# Altium footprint library PCB - CAPACITOR - ALUMINIUM - CAP TH ALUM ELEC D13.00mm S5.00mm H21.50mm.PCBLIB: 1 footprints
Each footprint in its own frame and in the unit in brackets; x right, y up, seen from the top. Pads: shape width x height; smd on the part's side, far side on the other; paste and mask are expansions set on the pad; w line width, h text height; cw(c..) or ccw(c..) is an arc to the next point about the centre after c.
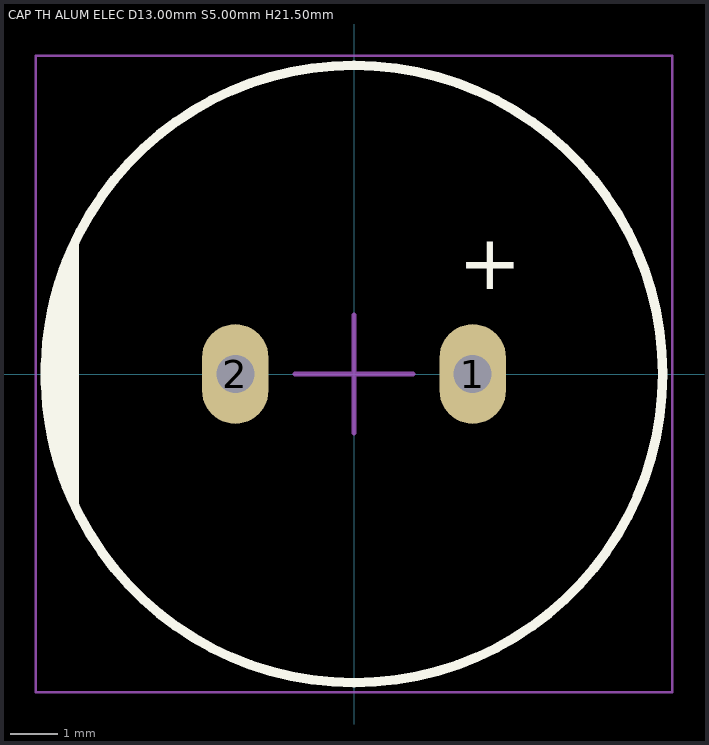
[diagram p0: the footprint, top view; thin cyan lines are the x and y axes]

## CAP TH ALUM ELEC D13.00mm S5.00mm H21.50mm [mm] "13mm Diameter 5mm Lead Spacing Aluminum Electrolytic Capacitors Radial, Can"
height 21.5
pads (2):
  oval 1.4x2.1 hole 0.8: 1(2.5,0) 2(-2.5,0)
Top Overlay:
  circle w0.2: c0,0 r6.5
  region: -5.891,-2.747 -6.041,-2.425 -6.269,-1.753 -6.423,-1.06 -6.5,-0.355 -6.5,0.355 -6.423,1.06 -6.269,1.753 -6.041,2.425 -5.891,2.747
  lines w0.2: -5.891,-2.747 cw(c0,0) -5.891,2.747 -5.891,-2.747
  text "+" at 2.2,1.4 h2
Mechanical 13:
  circle w0.1: c0,0 r6.5
  lines w0.1: -5.891,-2.747 -5.891,2.747
Mechanical 15:
  lines w0.05: -6.7,-6.7 -6.7,6.7 6.7,6.7 6.7,-6.7 -6.7,-6.7
  lines w0.1: -1.25,0 0,0 ; 0,-1.25 0,0 ; 0,1.25 0,0 ; 1.25,0 0,0
3D body "Cap TH D13.00mm H21.50mm L5.00mm.step": height 21.5, standoff -2.5, extent -6.51,-6.5 6.5,6.5